# EAGLE library part EDGE_SLICE (library slice)
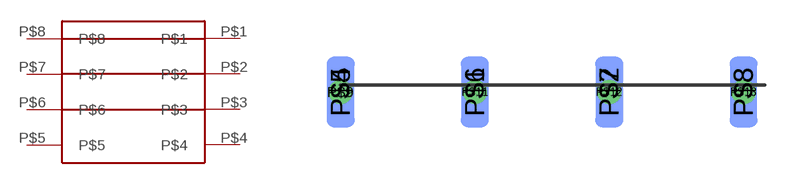
[diagram p7: symbol with the pads of SLICE_EDGE; footprint SLICE_EDGE]

Designator prefix -

## EDGE_SLICE  [SLICE_EDGE]
P$1  P$1
P$2  P$2
P$3  P$3
P$4  P$4
P$5  P$5
P$6  P$6
P$7  P$7
P$8  P$8

## Footprint SLICE_EDGE (pad centres in mm)
smd 1 x 2.54: P$1 -9.652,0; P$2 -4.826,0; P$3 0,0; P$4 -14.478,0
smd 1 x 2.54 bottom: P$5 -14.478,0; P$6 -9.652,0; P$7 -4.826,0; P$8 0,0
drill 0.356 round: P$9 -14.478,0; P$11 -9.652,0; P$12 -4.826,0; P$13 0,0